# Altium schematic symbol library T70052K.Schlib: 1 symbol
Pins are listed as number, name and electrical type; pins without a type are passive.

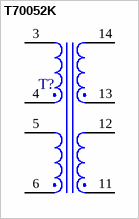
[diagram p0: symbol T70052K]

## T70052K
designator T?
pins: 3, 4, 5, 6, 11, 12, 13, 14